# Altium schematic symbol library STM32WB55RCV6.SchLib: 1 symbol
Pins are listed as number, name and electrical type; pins without a type are passive.

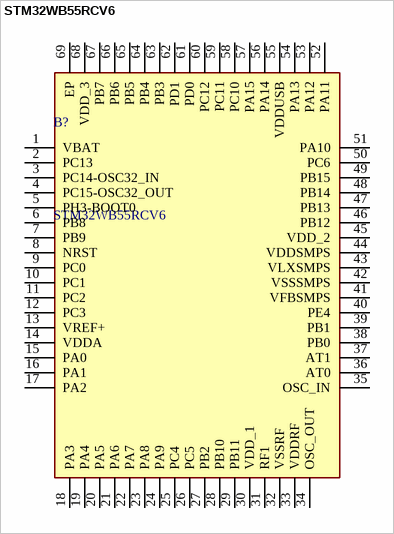
[diagram p0: symbol STM32WB55RCV6]

## STM32WB55RCV6
designator B?
Bluetooth v5.0 and 802.15.4 With Microcontroller Combo module; Manufacturer_Name: STMicroelectronics; Geometry.Height: 1mm; Manufacturer_Part_Number: STM32WB55RCV6; Mouser Part Number: 511-STM32WB55RCV6; Mouser Price/Stock: https://www.mouser.co.uk/ProductDetail/STMicroelectronics/STM32WB55RCV6?qs=vLWxofP3U2y%2F21YKkPUpfQ%3D%3D; Arrow Part Number: STM32WB55RCV6; Arrow Price/Stock: https://www.arrow.com/en/products/stm32wb55rcv6/stmicroelectronics?region=nac; Datasheet Link: https://www.mouser.com/datasheet/2/389/stm32wb55rc-1588898.pdf
footprint QFN40P800X800X100-69N-D
pins: 1 VBAT, 2 PC13, 3 PC14-OSC32_IN, 4 PC15-OSC32_OUT, 5 PH3-BOOT0, 6 PB8, 7 PB9, 8 NRST, 9 PC0, 10 PC1, 11 PC2, 12 PC3, 13 VREF+, 14 VDDA, 15 PA0, 16 PA1, 17 PA2, 18 PA3, 19 PA4, 20 PA5, 21 PA6, 22 PA7, 23 PA8, 24 PA9, 25 PC4, 26 PC5, 27 PB2, 28 PB10, 29 PB11, 30 VDD_1, 31 RF1, 32 VSSRF, 33 VDDRF, 34 OSC_OUT, 35 OSC_IN, 36 AT0, 37 AT1, 38 PB0, 39 PB1, 40 PE4, 41 VFBSMPS, 42 VSSSMPS, 43 VLXSMPS, 44 VDDSMPS, 45 VDD_2, 46 PB12, 47 PB13, 48 PB14, 49 PB15, 50 PC6, 51 PA10, 52 PA11, 53 PA12, 54 PA13, 55 VDDUSB, 56 PA14, 57 PA15, 58 PC10, 59 PC11, 60 PC12, 61 PD0, 62 PD1, 63 PB3, 64 PB4, 65 PB5, 66 PB6, 67 PB7, 68 VDD_3, 69 EP